# Altium schematic symbol library pptc.SchLib: 1 symbol
Pins are listed as number, name and electrical type; pins without a type are passive.

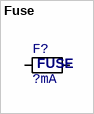
[diagram p0: symbol Fuse]

## Fuse
designator F?, comment ?mA
resettable fuse
footprint PPTC_0603
footprint PPTC_0805
pins: 1, 2
text: FUSE